# Altium schematic symbol library SL_Digital.SchLib: 6 symbols
Pins are listed as number, name and electrical type; pins without a type are passive.

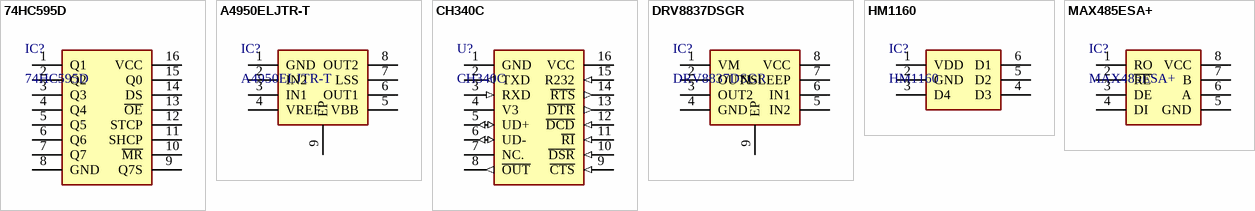
[diagram p0: symbols 74HC595D to MAX485ESA+]

## 74HC595D
designator IC?
Integrated Circuit; Manufacturer_Name: NXP; Datasheet Link: https://4donline.ihs.com/images/VipMasterIC/IC/PHGL/PHGL-S-A0000283114/PHGL-S-A0000283114-1.pdf?hkey=EF798316E3902B6ED9A73243A3159BB0; Height: 1.75mm; Manufacturer_Part_Number: 74HC595D
footprint SOIC127P600X175-16N
pins: 1 Q1, 2 Q2, 3 Q3, 4 Q4, 5 Q5, 6 Q6, 7 Q7, 8 GND, 9 Q7S, 10 ~{MR}, 11 SHCP, 12 STCP, 13 ~{OE}, 14 DS, 15 Q0, 16 VCC

## A4950ELJTR-T
designator IC?
Integrated Circuit; Manufacturer_Name: Allegro Microsystems; Datasheet Link: http://www.allegromicro.com/~/media/files/datasheets/a4950-datasheet.pdf; Height: 1.7mm; Manufacturer_Part_Number: A4950ELJTR-T; Mouser Part Number: 250-A4950ELJTR-T; Mouser Price/Stock: https://www.mouser.co.uk/ProductDetail/Allegro-MicroSystems/A4950ELJTR-T?qs=pUKx8fyJudCenzLC1EO6gQ%3D%3D; Arrow Part Number: A4950ELJTR-T; Arrow Price/Stock: https://www.arrow.com/en/products/a4950eljtr-t/allegro-microsystems?utm_currency=USD&region=nac
footprint SOIC127P600X170-9N
pins: 1 GND, 2 IN2, 3 IN1, 4 VREF, 5 VBB, 6 OUT1, 7 LSS, 8 OUT2, 9 EP

## CH340C
designator U?
USB to serial chip CH340; MF: WCH; Price: None; Availability: Not in stock; MP: CH340C; Package: None; SnapEDA_Link: https://www.snapeda.com/parts/CH340C/WCH/view-part/?ref=snap; Check_prices: https://www.snapeda.com/parts/CH340C/WCH/view-part/?ref=eda; Value: *
footprint SOIC127P600X180-16N
pins: 1 GND (power), 2 TXD (out), 3 RXD (in), 4 V3 (power), 5 UD+ (io), 6 UD- (io), 7 NC., 8 ~{OUT} (out), 9 ~{CTS} (in), 10 ~{DSR} (in), 11 ~{RI} (in), 12 ~{DCD} (in), 13 ~{DTR} (out), 14 ~{RTS} (out), 15 R232 (in), 16 VCC (power)

## DRV8837DSGR
designator IC?
Integrated Circuit, H-Bridge Driver, Out: 0-11V, 1.8A; Manufacturer_Name: Texas Instruments; Datasheet Link: http://www.ti.com/lit/gpn/drv8837; Height: 0.8mm; Manufacturer_Part_Number: DRV8837DSGR; Mouser Part Number: 595-DRV8837DSGR; Mouser Price/Stock: https://www.mouser.co.uk/ProductDetail/Texas-Instruments/DRV8837DSGR?qs=l6ZoeTYLMwO0pKIJ8222Ww%3D%3D; Arrow Part Number: DRV8837DSGR; Arrow Price/Stock: https://www.arrow.com/en/products/drv8837dsgr/texas-instruments?utm_currency=USD&region=nac
footprint SON50P200X200X80-9N
pins: 1 VM, 2 OUT1, 3 OUT2, 4 GND, 5 IN2, 6 IN1, 7 NSLEEP, 8 VCC, 9 EP

## HM1160
designator IC?
H&Msemi, 4 led voltage indicator; Manufacturer_Name: Texas Instruments; Manufacturer_Part_Number: DRV8837DSGR; Datasheet Link: http://www.ti.com/lit/gpn/drv8837; Height: 0.8mm; Mouser Part Number: 595-DRV8837DSGR; Mouser Price/Stock: https://www.mouser.co.uk/ProductDetail/Texas-Instruments/DRV8837DSGR?qs=l6ZoeTYLMwO0pKIJ8222Ww%3D%3D; Arrow Part Number: DRV8837DSGR; Arrow Price/Stock: https://www.arrow.com/en/products/drv8837dsgr/texas-instruments?utm_currency=USD&region=nac
footprint SOT95P280X145-6N
pins: 1 VDD, 2 GND, 3 D4, 4 D3, 5 D2, 6 D1

## MAX485ESA+
designator IC?
Integrated Circuit, RS-485 <-> UART Transceiver; Manufacturer_Name: Analog Devices; Datasheet Link: http://datasheets.maximintegrated.com/en/ds/MAX1487-MAX491.pdf; Height: 1.75mm; Manufacturer_Part_Number: MAX485ESA+; Mouser Part Number: 700-MAX485ESA; Mouser Price/Stock: https://www.mouser.co.uk/ProductDetail/Analog-Devices-Maxim-Integrated/MAX485ESA%2b?qs=1THa7WoU59HHuBnHtoz5mw%3D%3D; Arrow Part Number: MAX485ESA+; Arrow Price/Stock: https://www.arrow.com/en/products/max485esa/analog-devices?utm_currency=USD&region=nac
footprint SOIC127P600X175-8N
pins: 1 RO, 2 ~{RE}, 3 DE, 4 DI, 5 GND, 6 A, 7 B, 8 VCC